# Altium footprint library WE-FLYTI.PcbLib: 25 footprints (part 2 of 2)
Each footprint in its own frame and in the unit in brackets; x right, y up, seen from the top. Pads: shape width x height; smd on the part's side, far side on the other; paste and mask are expansions set on the pad; w line width, h text height; cw(c..) or ccw(c..) is an arc to the next point about the centre after c.
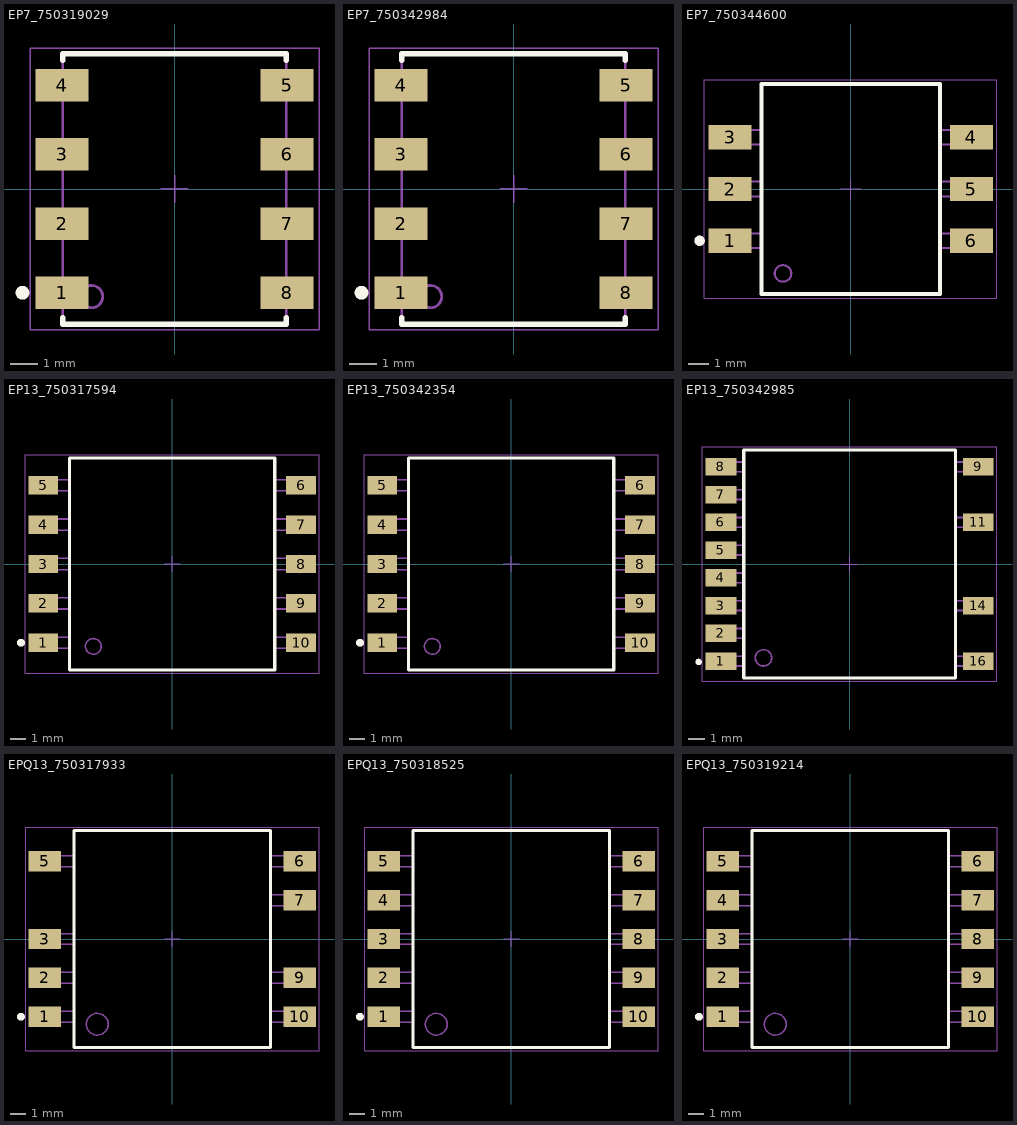
[diagram p1: the footprints below, top view; thin cyan lines are the x and y axes]

## EP7_750319029 [mm] "Flyback Transformer, EP7, SMT"
height 10.54
pads (8):
  rect 1.91x1.17 smd: 1(-4.065,-3.75) 2(-4.065,-1.25) 3(-4.065,1.25) 4(-4.065,3.75) 5(4.065,3.75) 6(4.065,1.25) 7(4.065,-1.25) 8(4.065,-3.75)
Top Overlay:
  circle w0.25: c-5.5,-3.75 r0.125
  lines w0.2: -4.04,-4.65 -4.04,-4.89 4.04,-4.89 4.04,-4.65 ; -4.04,4.65 -4.04,4.89 4.04,4.89 4.04,4.65
Top Component Outline:
  circle w0.1: c-3,-3.89 r0.4
  lines w0.1: -4.04,-4.105 -4.4,-4.105 -4.4,-3.395 -4.04,-3.395 ; -4.04,-1.605 -4.4,-1.605 -4.4,-0.895 -4.04,-0.895 ; -4.04,0.895 -4.4,0.895 -4.4,1.605 -4.04,1.605 ; -4.04,3.395 -4.4,3.395 -4.4,4.105 -4.04,4.105 ; 4.04,-4.105 4.4,-4.105 4.4,-3.395 4.04,-3.395 ; 4.04,-1.605 4.4,-1.605 4.4,-0.895 4.04,-0.895 ; 4.04,0.895 4.4,0.895 4.4,1.605 4.04,1.605 ; 4.04,3.395 4.4,3.395 4.4,4.105 4.04,4.105 ; -4.04,-4.89 4.04,-4.89 4.04,4.89 -4.04,4.89 -4.04,-4.89
Top Courtyard:
  lines w0.05: -5.22,-5.09 5.22,-5.09 5.22,5.09 -5.22,5.09 -5.22,-5.09
Top Component Center:
  lines w0.05: -0.5,0 0.5,0 ; 0,-0.5 0,0.5
Top Designator (Mech19):
  text ".Designator" at -7.498,-0.5 h1.5
3D body "070-4436 (rev1) (8).STEP": height 10.09, standoff 0, extent -4.4,-4.89 4.4,4.89

## EP7_750342984 [mm] "Flyback Transformer, EP7, SMT"
height 10.54
pads (8):
  rect 1.91x1.17 smd: 1(-4.065,-3.75) 2(-4.065,-1.25) 3(-4.065,1.25) 4(-4.065,3.75) 5(4.065,3.75) 6(4.065,1.25) 7(4.065,-1.25) 8(4.065,-3.75)
Top Overlay:
  circle w0.25: c-5.5,-3.75 r0.125
  lines w0.2: -4.04,-4.65 -4.04,-4.89 4.04,-4.89 4.04,-4.65 ; -4.04,4.65 -4.04,4.89 4.04,4.89 4.04,4.65
Top Component Outline:
  circle w0.1: c-3,-3.89 r0.4
  lines w0.1: -4.04,-4.105 -4.4,-4.105 -4.4,-3.395 -4.04,-3.395 ; -4.04,-1.605 -4.4,-1.605 -4.4,-0.895 -4.04,-0.895 ; -4.04,0.895 -4.4,0.895 -4.4,1.605 -4.04,1.605 ; -4.04,3.395 -4.4,3.395 -4.4,4.105 -4.04,4.105 ; 4.04,-4.105 4.4,-4.105 4.4,-3.395 4.04,-3.395 ; 4.04,-1.605 4.4,-1.605 4.4,-0.895 4.04,-0.895 ; 4.04,0.895 4.4,0.895 4.4,1.605 4.04,1.605 ; 4.04,3.395 4.4,3.395 4.4,4.105 4.04,4.105 ; -4.04,-4.89 4.04,-4.89 4.04,4.89 -4.04,4.89 -4.04,-4.89
Top Courtyard:
  lines w0.05: -5.22,-5.09 5.22,-5.09 5.22,5.09 -5.22,5.09 -5.22,-5.09
Top Component Center:
  lines w0.05: -0.5,0 0.5,0 ; 0,-0.5 0,0.5
Top Designator (Mech19):
  text ".Designator" at -7.498,-0.5 h1.5
3D body "070-4436 (rev1) (8).STEP": height 10.09, standoff 0, extent -4.4,-4.89 4.4,4.89

## EP7_750344600 [mm] "Flyback Transformer, EP7, SMT"
height 9.14
pads (6):
  rect 2.08x1.17 smd: 1(-5.83,-2.5) 2(-5.83,0) 3(-5.83,2.5) 4(5.83,2.5) 5(5.83,0) 6(5.83,-2.5)
Top Overlay:
  circle w0.25: c-7.3,-2.5 r0.125
  lines w0.2: -4.31,-5.08 4.31,-5.08 4.31,5.08 -4.31,5.08 -4.31,-5.08
Top Component Outline:
  circle w0.1: c-3.27,-4.08 r0.4
  lines w0.1: -4.31,-2.855 -6.35,-2.855 -6.35,-2.145 -4.31,-2.145 ; -4.31,-0.355 -6.35,-0.355 -6.35,0.355 -4.31,0.355 ; -4.31,2.145 -6.35,2.145 -6.35,2.855 -4.31,2.855 ; 4.31,-2.855 6.35,-2.855 6.35,-2.145 4.31,-2.145 ; 4.31,-0.355 6.35,-0.355 6.35,0.355 4.31,0.355 ; 4.31,2.145 6.35,2.145 6.35,2.855 4.31,2.855 ; -4.31,-5.08 -4.31,5.08 4.31,5.08 4.31,-5.08 -4.31,-5.08
Top Courtyard:
  lines w0.05: -7.07,-5.28 7.07,-5.28 7.07,5.28 -7.07,5.28 -7.07,-5.28
Top Component Center:
  lines w0.05: -0.5,0 0.5,0 ; 0,-0.5 0,0.5
Top Designator (Mech19):
  text ".Designator" at -7.498,-0.5 h1.5
3D body "070-5801 (rev1) (1).STEP": height 8.59, standoff 0, extent -6.35,-4.89 6.35,4.89

## EP13_750317594 [mm] "Flyback Transformer, EP13, SMT"
height 12.7
pads (10):
  rect 1.88x1.17 smd: 1(-8.18,-5) 2(-8.18,-2.5) 3(-8.18,0) 4(-8.18,2.5) 5(-8.18,5) 6(8.18,5) 7(8.18,2.5) 8(8.18,0) 9(8.18,-2.5) 10(8.18,-5)
Top Overlay:
  circle w0.25: c-9.6,-5 r0.125
  lines w0.2: -6.51,-6.73 6.51,-6.73 6.51,6.73 -6.51,6.73 -6.51,-6.73
Top Component Outline:
  circle w0.1: c-5.01,-5.23 r0.5
  lines w0.1: -6.51,-5.355 -8.58,-5.355 -8.58,-4.645 -6.51,-4.645 ; -6.51,-2.855 -8.58,-2.855 -8.58,-2.145 -6.51,-2.145 ; -6.51,-0.355 -8.58,-0.355 -8.58,0.355 -6.51,0.355 ; -6.51,2.145 -8.58,2.145 -8.58,2.855 -6.51,2.855 ; -6.51,4.645 -8.58,4.645 -8.58,5.355 -6.51,5.355 ; 6.51,-5.355 8.58,-5.355 8.58,-4.645 6.51,-4.645 ; 6.51,-2.855 8.58,-2.855 8.58,-2.145 6.51,-2.145 ; 6.51,-0.355 8.58,-0.355 8.58,0.355 6.51,0.355 ; 6.51,2.145 8.58,2.145 8.58,2.855 6.51,2.855 ; 6.51,4.645 8.58,4.645 8.58,5.355 6.51,5.355 ; -6.51,-6.73 6.51,-6.73 6.51,6.73 -6.51,6.73 -6.51,-6.73
Top Courtyard:
  lines w0.05: -9.32,-6.93 9.32,-6.93 9.32,6.93 -9.32,6.93 -9.32,-6.93
Top Component Center:
  lines w0.05: -0.5,0 0.5,0 ; 0,-0.5 0,0.5
Top Designator (Mech19):
  text ".Designator" at -7.498,-0.5 h1.5
3D body "070-5465 (rev1) (2).STEP": height 11.96, standoff 0, extent -8.58,-6.55 8.58,6.55

## EP13_750342354 [mm] "Flyback Transformer, EP13, SMT"
height 12.7
pads (10):
  rect 1.88x1.17 smd: 1(-8.18,-5) 2(-8.18,-2.5) 3(-8.18,0) 4(-8.18,2.5) 5(-8.18,5) 6(8.18,5) 7(8.18,2.5) 8(8.18,0) 9(8.18,-2.5) 10(8.18,-5)
Top Overlay:
  circle w0.25: c-9.6,-5 r0.125
  lines w0.2: -6.51,-6.73 6.51,-6.73 6.51,6.73 -6.51,6.73 -6.51,-6.73
Top Component Outline:
  circle w0.1: c-5.01,-5.23 r0.5
  lines w0.1: -6.51,-5.355 -8.58,-5.355 -8.58,-4.645 -6.51,-4.645 ; -6.51,-2.855 -8.58,-2.855 -8.58,-2.145 -6.51,-2.145 ; -6.51,-0.355 -8.58,-0.355 -8.58,0.355 -6.51,0.355 ; -6.51,2.145 -8.58,2.145 -8.58,2.855 -6.51,2.855 ; -6.51,4.645 -8.58,4.645 -8.58,5.355 -6.51,5.355 ; 6.51,-5.355 8.58,-5.355 8.58,-4.645 6.51,-4.645 ; 6.51,-2.855 8.58,-2.855 8.58,-2.145 6.51,-2.145 ; 6.51,-0.355 8.58,-0.355 8.58,0.355 6.51,0.355 ; 6.51,2.145 8.58,2.145 8.58,2.855 6.51,2.855 ; 6.51,4.645 8.58,4.645 8.58,5.355 6.51,5.355 ; -6.51,-6.73 6.51,-6.73 6.51,6.73 -6.51,6.73 -6.51,-6.73
Top Courtyard:
  lines w0.05: -9.32,-6.93 9.32,-6.93 9.32,6.93 -9.32,6.93 -9.32,-6.93
Top Component Center:
  lines w0.05: -0.5,0 0.5,0 ; 0,-0.5 0,0.5
Top Designator (Mech19):
  text ".Designator" at -7.498,-0.5 h1.5
3D body "070-5465 (rev1) (2).STEP": height 11.96, standoff 0, extent -8.58,-6.55 8.58,6.55

## EP13_750342985 [mm] "Flyback Transformer, EP13, SMT"
height 12.7
pads (12):
  rect 1.88x1.07 smd: 1(-7.885,-5.95) 2(-7.885,-4.25) 3(-7.885,-2.55) 4(-7.885,-0.85) 5(-7.885,0.85) 6(-7.885,2.55) 7(-7.885,4.25) 8(-7.885,5.95) 9(7.885,5.95) 11(7.885,2.55) 14(7.885,-2.55) 16(7.885,-5.95)
Top Overlay:
  circle w0.2: c-9.25,-6 r0.1
  lines w0.2: -6.48,-6.985 6.48,-6.985 6.48,6.985 -6.48,6.985 -6.48,-6.985
Top Component Outline:
  circle w0.1: c-5.28,-5.75 r0.5
  lines w0.1: -6.48,-6.25 -8.215,-6.25 -8.215,-5.65 -6.48,-5.65 ; -6.48,-4.55 -8.215,-4.55 -8.215,-3.95 -6.48,-3.95 ; -6.48,-2.85 -8.215,-2.85 -8.215,-2.25 -6.48,-2.25 ; -6.48,-1.15 -8.215,-1.15 -8.215,-0.55 -6.48,-0.55 ; -6.48,0.55 -8.215,0.55 -8.215,1.15 -6.48,1.15 ; -6.48,2.25 -8.215,2.25 -8.215,2.85 -6.48,2.85 ; -6.48,3.95 -8.215,3.95 -8.215,4.55 -6.48,4.55 ; -6.48,5.65 -8.215,5.65 -8.215,6.25 -6.48,6.25 ; 6.48,-6.25 8.215,-6.25 8.215,-5.65 6.48,-5.65 ; 6.48,-2.85 8.215,-2.85 8.215,-2.25 6.48,-2.25 ; 6.48,2.25 8.215,2.25 8.215,2.85 6.48,2.85 ; 6.48,5.65 8.215,5.65 8.215,6.25 6.48,6.25 ; -6.48,-6.985 6.48,-6.985 6.48,6.985 -6.48,6.985 -6.48,-6.985
Top Courtyard:
  lines w0.05: -9.025,-7.185 -9.025,7.185 9.025,7.185 9.025,-7.185 -9.025,-7.185
Top Component Center:
  lines w0.05: -0.5,0 0.5,0 ; 0,-0.5 0,0.5
Top Designator (Mech19):
  text ".Designator" at -7.498,-0.5 h1.5
3D body "Download_STP_070-4482 (rev1).STEP": height 12.27, standoff 0, extent -8.215,-6.82 8.205,6.82

## EPQ13_750317933 [mm] "Flyback Transformer, EPQ13, SMT"
height 14.5
pads (8):
  rect 2.08x1.31 smd: 1(-8.2,-5) 2(-8.2,-2.5) 3(-8.2,0) 5(-8.2,5) 6(8.2,5) 7(8.2,2.5) 9(8.2,-2.5) 10(8.2,-5)
Top Overlay:
  circle w0.25: c-9.737,-5 r0.125
  lines w0.2: -6.325,-6.985 -6.325,6.985 6.325,6.985 6.325,-6.985 -6.325,-6.985
Top Component Outline:
  circle w0.1: c-4.825,-5.485 r0.7
  lines w0.1: -6.325,-5.35 -8.695,-5.35 -8.695,-4.65 -6.325,-4.65 ; -6.325,-2.85 -8.695,-2.85 -8.695,-2.15 -6.325,-2.15 ; -6.325,-0.35 -8.695,-0.35 -8.695,0.35 -6.325,0.35 ; -6.325,4.65 -8.695,4.65 -8.695,5.35 -6.325,5.35 ; 6.325,-5.35 8.695,-5.35 8.695,-4.65 6.325,-4.65 ; 6.325,-2.85 8.695,-2.85 8.695,-2.15 6.325,-2.15 ; 6.325,2.15 8.695,2.15 8.695,2.85 6.325,2.85 ; 6.325,4.65 8.695,4.65 8.695,5.35 6.325,5.35 ; -6.325,-6.985 6.325,-6.985 6.325,6.985 -6.325,6.985 -6.325,-6.985
Top Courtyard:
  lines w0.05: -9.44,-7.185 9.44,-7.185 9.44,7.185 -9.44,7.185 -9.44,-7.185
Top Component Center:
  lines w0.05: -0.5,0 0.5,0 ; 0,-0.5 0,0.5
Top Designator (Mech19):
  text ".Designator" at -7.498,-0.5 h1.5
3D body "Download_STP_070-6389_MP4-8 (rev1).STEP": height 13.81, standoff 0, extent -8.695,-6.595 8.695,6.605

## EPQ13_750318525 [mm] "Flyback Transformer, EPQ13, SMT"
height 14.5
pads (10):
  rect 2.08x1.31 smd: 1(-8.2,-5) 2(-8.2,-2.5) 3(-8.2,0) 4(-8.2,2.5) 5(-8.2,5) 6(8.2,5) 7(8.2,2.5) 8(8.2,0) 9(8.2,-2.5) 10(8.2,-5)
Top Overlay:
  circle w0.25: c-9.737,-5 r0.125
  lines w0.2: -6.325,-6.985 -6.325,6.985 6.325,6.985 6.325,-6.985 -6.325,-6.985
Top Component Outline:
  circle w0.1: c-4.825,-5.485 r0.7
  lines w0.1: -6.325,-5.35 -8.695,-5.35 -8.695,-4.65 -6.325,-4.65 ; -6.325,-2.85 -8.695,-2.85 -8.695,-2.15 -6.325,-2.15 ; -6.325,-0.35 -8.695,-0.35 -8.695,0.35 -6.325,0.35 ; -6.325,2.15 -8.695,2.15 -8.695,2.85 -6.325,2.85 ; -6.325,4.65 -8.695,4.65 -8.695,5.35 -6.325,5.35 ; 6.325,-5.35 8.695,-5.35 8.695,-4.65 6.325,-4.65 ; 6.325,-2.85 8.695,-2.85 8.695,-2.15 6.325,-2.15 ; 6.325,-0.35 8.695,-0.35 8.695,0.35 6.325,0.35 ; 6.325,2.15 8.695,2.15 8.695,2.85 6.325,2.85 ; 6.325,4.65 8.695,4.65 8.695,5.35 6.325,5.35 ; -6.325,-6.985 6.325,-6.985 6.325,6.985 -6.325,6.985 -6.325,-6.985
Top Courtyard:
  lines w0.05: -9.44,-7.185 9.44,-7.185 9.44,7.185 -9.44,7.185 -9.44,-7.185
Top Component Center:
  lines w0.05: -0.5,0 0.5,0 ; 0,-0.5 0,0.5
Top Designator (Mech19):
  text ".Designator" at -7.498,-0.5 h1.5
3D body "Download_STP_070-6389 (rev1).STEP": height 13.81, standoff 0, extent -8.695,-6.6 8.695,6.6

## EPQ13_750319214 [mm] "Flyback Transformer, EPQ13, SMT"
height 14.5
pads (10):
  rect 2.08x1.31 smd: 1(-8.2,-5) 2(-8.2,-2.5) 3(-8.2,0) 4(-8.2,2.5) 5(-8.2,5) 6(8.2,5) 7(8.2,2.5) 8(8.2,0) 9(8.2,-2.5) 10(8.2,-5)
Top Overlay:
  circle w0.25: c-9.737,-5 r0.125
  lines w0.2: -6.325,-6.985 6.325,-6.985 6.325,6.985 -6.325,6.985 -6.325,-6.985
Top Component Outline:
  circle w0.1: c-4.825,-5.485 r0.7
  lines w0.1: -6.325,-5.35 -8.695,-5.35 -8.695,-4.65 -6.325,-4.65 ; -6.325,-2.85 -8.695,-2.85 -8.695,-2.15 -6.325,-2.15 ; -6.325,-0.35 -8.695,-0.35 -8.695,0.35 -6.325,0.35 ; -6.325,2.15 -8.695,2.15 -8.695,2.85 -6.325,2.85 ; -6.325,4.65 -8.695,4.65 -8.695,5.35 -6.325,5.35 ; 6.325,-5.35 8.695,-5.35 8.695,-4.65 6.325,-4.65 ; 6.325,-2.85 8.695,-2.85 8.695,-2.15 6.325,-2.15 ; 6.325,-0.35 8.695,-0.35 8.695,0.35 6.325,0.35 ; 6.325,2.15 8.695,2.15 8.695,2.85 6.325,2.85 ; 6.325,4.65 8.695,4.65 8.695,5.35 6.325,5.35 ; -6.325,-6.985 -6.325,6.985 6.325,6.985 6.325,-6.985 -6.325,-6.985
Top Courtyard:
  lines w0.05: -9.44,-7.185 -9.44,7.185 9.44,7.185 9.44,-7.185 -9.44,-7.185
Top Component Center:
  lines w0.05: -0.5,0 0.5,0 ; 0,-0.5 0,0.5
Top Designator (Mech19):
  text ".Designator" at -7.498,-0.5 h1.5
3D body "Download_STP_070-6389 (rev1).STEP": height 13.81, standoff 0, extent -8.695,-6.6 8.695,6.6